# EAGLE library part OKY3524 (library OKY3524)
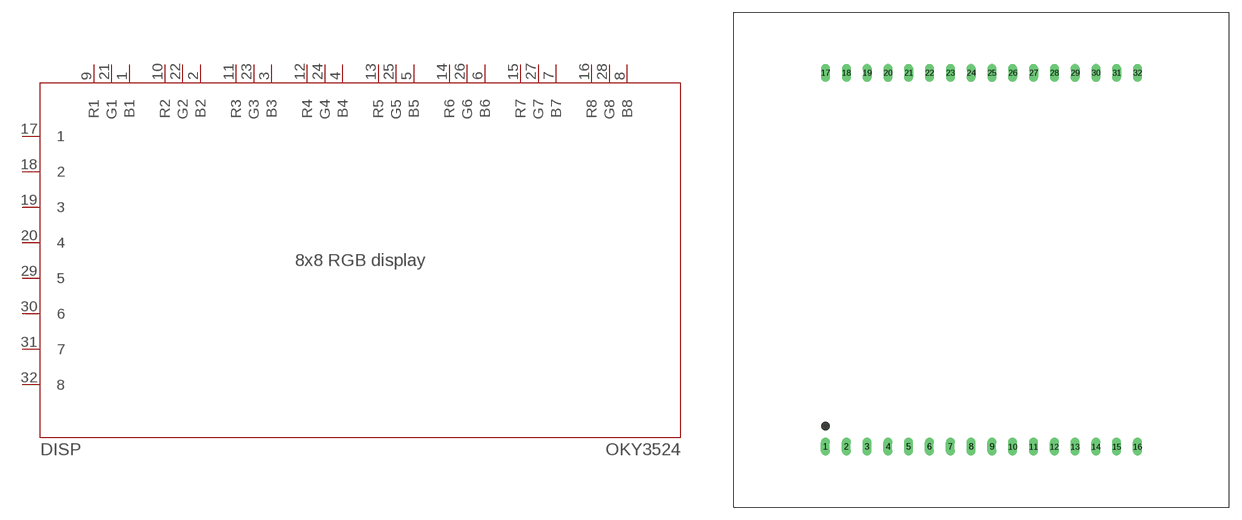
[diagram p0: symbol with the pads of OKY3524; footprint OKY3524]

Designator prefix DISP

## OKY3524  [OKY3524]
1  B1
2  B2
3  B3
4  B4
5  B5
6  B6
7  B7
8  B8
9  R1
10  R2
11  R3
12  R4
13  R5
14  R6
15  R7
16  R8
17  1
18  2
19  3
20  4
21  G1
22  G2
23  G3
24  G4
25  G5
26  G6
27  G7
28  G8
29  5
30  6
31  7
32  8

## Footprint OKY3524 (pad centres in mm)
drill 0.6 long: 1 -19.05,-22.86; 2 -16.51,-22.86; 3 -13.97,-22.86; 4 -11.43,-22.86; 5 -8.89,-22.86; 6 -6.35,-22.86; 7 -3.81,-22.86; 8 -1.27,-22.86; 9 1.27,-22.86; 10 3.81,-22.86; 11 6.35,-22.86; 12 8.89,-22.86; 13 11.43,-22.86; 14 13.97,-22.86; 15 16.51,-22.86; 16 19.05,-22.86; 17 -19.05,22.86; 18 -16.51,22.86; 19 -13.97,22.86; 20 -11.43,22.86; 21 -8.89,22.86; 22 -6.35,22.86; 23 -3.81,22.86; 24 -1.27,22.86; 25 1.27,22.86; 26 3.81,22.86; 27 6.35,22.86; 28 8.89,22.86; 29 11.43,22.86; 30 13.97,22.86; 31 16.51,22.86; 32 19.05,22.86